# EAGLE library part AD8495 (library mylib)
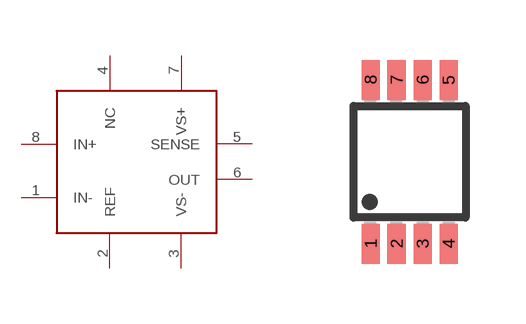
[diagram p0: symbol with the pads of MSOP8; footprint MSOP8]

Designator prefix -

## AD8495MSOP8  [MSOP8]
1  IN-  in
2  REF
3  VS-  pwr
4  NC  nc
5  SENSE
6  OUT  out
7  VS+  pwr
8  IN+  in

## Footprint MSOP8 (pad centres in mm)
Micro Small Outline Package Grid .65mm
smd 0.45 x 1: 1 -0.975,-2.05; 2 -0.325,-2.05; 3 0.325,-2.05; 4 0.975,-2.05; 5 0.975,2.05; 6 0.325,2.05; 7 -0.325,2.05; 8 -0.975,2.05